# Altium schematic symbol library WE-OLPI.SchLib: 9 symbols
Pins are listed as number, name and electrical type; pins without a type are passive.

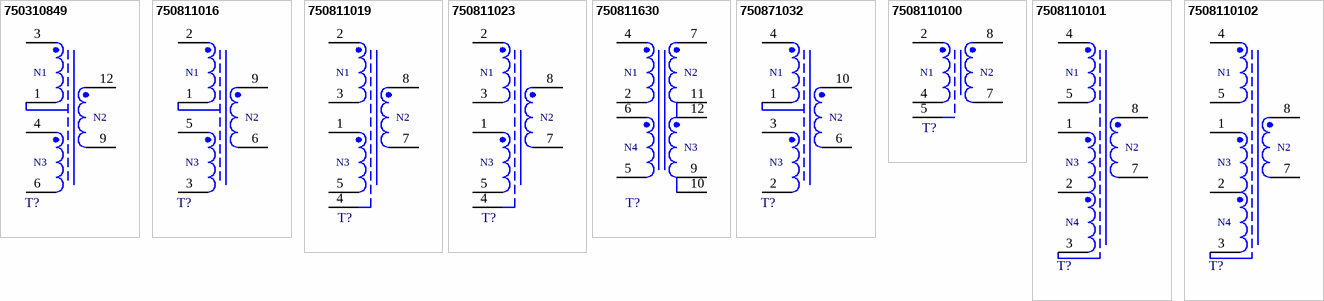
[diagram p0: symbols 750310849 to 7508110102]

## 750310849
designator T?, comment Ui = 85 - 265V, Uo = 12V / 1A  (value not drawn)
WE-OLPI Offline Flyback Transformer, THT, EE20/10/6, Ui = 85 - 265V, Uo = 12V / 1A; Manufacturer Part Number: 750310849; Manufacturer: Wurth Elektronik; Auxiliary Voltage: 22V; Inductance: 0.9mH; Input Voltage: 85 - 265V (AC); Insulation Test Voltage: 4000V (AC); Saturation Current: 0.9A; Switching Frequency: 132kHz; Category: Transformers For AC-DC Converter; Match Code: WE-OLPI; ComponentLink1Description: Website Link; ComponentLink1URL: https://www.we-online.com/redexpert/article/750310849?ad; ComponentLink2Description: Datasheet Link; ComponentLink2URL: https://www.we-online.com/redexpert/spec/750310849?ad; Mount: Through Hole; Operating Temperature Max: 125°C; Operating Temperature Min: -40°C; Packaging: Tray; Case/Size Code: EE20/10/6; Output Current 1: 1A; Output Voltage 1: 12V
footprint EE20/10/6_750310849
pins: 1, 3, 4, 6, 9, 12
text: N1; N2; N3

## 750811016
designator T?, comment Ui = 85 - 265V, Uo = 5V / 1.2A  (value not drawn)
WE-OLPI Offline Flyback Transformer, THT, EE16/7/5, Ui = 85 - 265V, Uo = 5V / 1.2A; Manufacturer Part Number: 750811016; Manufacturer: Wurth Elektronik; Auxiliary Voltage: 13.5V; Inductance: 1.67mH; Input Voltage: 85 - 265V (AC); Insulation Test Voltage: 4500V (AC); Saturation Current: 0.45A; Switching Frequency: 100kHz; Category: Transformers For AC-DC Converter; Match Code: WE-OLPI; ComponentLink1Description: Website Link; ComponentLink1URL: https://www.we-online.com/redexpert/article/750811016?ad; ComponentLink2Description: Datasheet Link; ComponentLink2URL: https://www.we-online.com/redexpert/spec/750811016?ad; Mount: Through Hole; Operating Temperature Max: 125°C; Operating Temperature Min: -40°C; Packaging: Tray; Case/Size Code: EE16/7/5; Output Current 1: 1.2A; Output Voltage 1: 5V
footprint EE16/7/5_750811016
pins: 1, 2, 3, 5, 6, 9
text: N1; N2; N3

## 750811019
designator T?, comment Ui = 85 - 265V, Uo = 6V / 0.33A  (value not drawn)
WE-OLPI Offline Flyback Transformer, THT, EE16/8/5, Ui = 85 - 265V, Uo = 6V / 0.33A; Manufacturer Part Number: 750811019; Manufacturer: Wurth Elektronik; Auxiliary Voltage: 19V; Inductance: 2.7mH; Input Voltage: 85 - 265V (AC); Insulation Test Voltage: 4500V (AC); Saturation Current: 0.25A; Switching Frequency: 132kHz; Category: Transformers For AC-DC Converter; Match Code: WE-OLPI; ComponentLink1Description: Website Link; ComponentLink1URL: https://www.we-online.com/redexpert/article/750811019?ad; ComponentLink2Description: Datasheet Link; ComponentLink2URL: https://www.we-online.com/redexpert/spec/750811019?ad; Mount: Through Hole; Operating Temperature Max: 125°C; Operating Temperature Min: -40°C; Packaging: Tray; Case/Size Code: EE16/8/5; Output Current 1: 0.33A; Output Voltage 1: 6V
footprint EE16/8/5_750811019
pins: 1, 2, 3, 4, 5, 7, 8
text: N1; N2; N3

## 750811023
designator T?, comment Ui = 85 - 265V, Uo = 8V / 0.3A  (value not drawn)
WE-OLPI Offline Flyback Transformer, THT, EE16/8/5, Ui = 85 - 265V, Uo = 8V / 0.3A; Manufacturer Part Number: 750811023; Manufacturer: Wurth Elektronik; Auxiliary Voltage: 7.2V; Inductance: 2.28mH; Input Voltage: 85 - 265V (AC); Insulation Test Voltage: 4500V (AC); Switching Frequency: 66kHz; Category: Transformers For AC-DC Converter; Match Code: WE-OLPI; ComponentLink1Description: Website Link; ComponentLink1URL: https://www.we-online.com/redexpert/article/750811023?ad; ComponentLink2Description: Datasheet Link; ComponentLink2URL: https://www.we-online.com/redexpert/spec/750811023?ad; Mount: Through Hole; Operating Temperature Max: 125°C; Operating Temperature Min: -40°C; Packaging: Tray; Case/Size Code: EE16/8/5; Output Current 1: 0.3A; Output Voltage 1: 8V; Saturation Current: 0.3A
footprint EE16/8/5_750811023
pins: 1, 2, 3, 4, 5, 7, 8
text: N1; N2; N3

## 750811630
designator T?, comment Ui = 85 - 265V, Uo1 = 12V / 2A, Uo2 = 5V / 2.2A  (value not drawn)
WE-OLPI Offline Flyback Transformer, THT, ER28/14, Ui = 85 - 265V, Uo1 = 12V / 2A, Uo2 = 5V / 2.2A; Manufacturer Part Number: 750811630; Manufacturer: Wurth Elektronik; Auxiliary Voltage: 11.5V; Inductance: 1.04mH; Input Voltage: 85 - 265V (AC); Insulation Test Voltage: 4500V (AC); Switching Frequency: 66kHz; Category: Transformers For AC-DC Converter; Match Code: WE-OLPI; ComponentLink1Description: Website Link; ComponentLink1URL: https://www.we-online.com/redexpert/article/750811630?ad; ComponentLink2Description: Datasheet Link; ComponentLink2URL: https://www.we-online.com/redexpert/spec/750811630?ad; Mount: Through Hole; Operating Temperature Max: 125°C; Operating Temperature Min: -40°C; Packaging: Tray; Case/Size Code: ER28/14; Output Current 1: 2A; Output Current 2: 2.2A; Output Voltage 1: 12V; Output Voltage 2: 5V; Saturation Current: 2.2A
footprint ER28/14_750811630
pins: 2, 4, 5, 6, 7, 9, 10, 11, 12
text: N1; N2; N4; N3

## 750871032
designator T?, comment Ui = 85 - 265V, Uo = 12V / 0.35A  (value not drawn)
WE-OLPI Offline Flyback Transformer, THT, EE16/7/5, Ui = 85 - 265V, Uo = 12V / 0.35A; Manufacturer Part Number: 750871032; Manufacturer: Wurth Elektronik; Auxiliary Voltage: 13V; Inductance: 1.55mH; Input Voltage: 85 - 265V (AC); Insulation Test Voltage: 3000V (AC); Switching Frequency: 66kHz; Category: Transformers For AC-DC Converter; Match Code: WE-OLPI; ComponentLink1Description: Website Link; ComponentLink1URL: https://www.we-online.com/redexpert/article/750871032?ad; ComponentLink2Description: Datasheet Link; ComponentLink2URL: https://www.we-online.com/redexpert/spec/750871032?ad; Mount: Through Hole; Operating Temperature Max: 125°C; Operating Temperature Min: -40°C; Packaging: Tray; Case/Size Code: EE16/7/5; Output Current 1: 0.35A; Output Voltage 1: 12V
footprint EE16/7/5_750871032
pins: 1, 2, 3, 4, 6, 10
text: N1; N2; N3

## 7508110100
designator T?, comment Ui = 85 - 265V, Uo = 6.2V / 0.322A  (value not drawn)
WE-OLPI Offline Flyback Transformer, THT, EE16/8/5, Ui = 85 - 265V, Uo = 6.2V / 0.322A; Manufacturer Part Number: 7508110100; Manufacturer: Wurth Elektronik; Inductance: 2.64mH; Input Voltage: 85 - 265V (AC); Insulation Test Voltage: 4500V (AC); Saturation Current: 0.35A; Switching Frequency: 132kHz; Category: Transformers For AC-DC Converter; Match Code: WE-OLPI; ComponentLink1Description: Website Link; ComponentLink1URL: https://www.we-online.com/redexpert/article/7508110100?ad; ComponentLink2Description: Datasheet Link; ComponentLink2URL: https://www.we-online.com/redexpert/spec/7508110100?ad; Mount: Through Hole; Operating Temperature Max: 125°C; Operating Temperature Min: -40°C; Packaging: Tray; Case/Size Code: EE16/8/5; Output Current 1: 0.322A; Output Voltage 1: 6.2V
footprint EE16/8/5_7508110100
pins: 2, 4, 5, 7, 8
text: N1; N2

## 7508110101
designator T?, comment Ui = 85 - 265V, Uo = 5V / 1A  (value not drawn)
WE-OLPI Offline Flyback Transformer, THT, EE16/8/5, Ui = 85 - 265V, Uo = 5V / 1A; Manufacturer Part Number: 7508110101; Manufacturer: Wurth Elektronik; Auxiliary Voltage: 8.6V; Inductance: 1.07mH; Input Voltage: 85 - 265V (AC); Insulation Test Voltage: 4500V (AC); Saturation Current: 0.7A; Switching Frequency: 65kHz; Category: Transformers For AC-DC Converter; Match Code: WE-OLPI; ComponentLink1Description: Website Link; ComponentLink1URL: https://www.we-online.com/redexpert/article/7508110101?ad; ComponentLink2Description: Datasheet Link; ComponentLink2URL: https://www.we-online.com/redexpert/spec/7508110101?ad; Mount: Through Hole; Operating Temperature Max: 125°C; Operating Temperature Min: -40°C; Packaging: Tray; Case/Size Code: EE16/8/5; Output Current 1: 1A; Output Voltage 1: 5V
footprint EE16/8/5_7508110101
pins: 1, 2, 3, 4, 5, 7, 8
text: N1; N2; N3; N4

## 7508110102
designator T?, comment Ui = 85 - 265V, Uo = 5V / 0.555A  (value not drawn)
WE-OLPI Offline Flyback Transformer, THT, EE16/8/5, Ui = 85 - 265V, Uo = 5V / 0.555A; Manufacturer Part Number: 7508110102; Manufacturer: Wurth Elektronik; Auxiliary Voltage: 8.6V; Inductance: 2.58mH; Input Voltage: 85 - 265V (AC); Insulation Test Voltage: 4500V (AC); Saturation Current: 0.33A; Switching Frequency: 65kHz; Category: Transformers For AC-DC Converter; Match Code: WE-OLPI; ComponentLink1Description: Website Link; ComponentLink1URL: https://www.we-online.com/redexpert/article/7508110102?ad; ComponentLink2Description: Datasheet Link; ComponentLink2URL: https://www.we-online.com/redexpert/spec/7508110102?ad; Mount: Through Hole; Operating Temperature Max: 125°C; Operating Temperature Min: -40°C; Packaging: Tray; Case/Size Code: EE16/8/5; Output Current 1: 0.555A; Output Voltage 1: 5V
footprint EE16/8/5_7508110102
pins: 1, 2, 3, 4, 5, 7, 8
text: N1; N2; N3; N4